# EAGLE library part DS1302 (library #PaJa_30)
RTC - obvod realneho casu
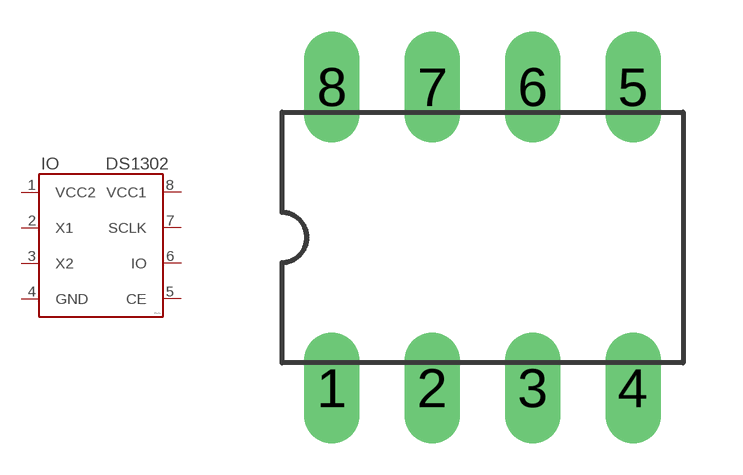
[diagram p61: symbol with the pads of DIL8; footprint DIL8]

Designator prefix IO

## DS1302  [DIL8]
1  VCC2  pwr
2  X1
3  X2
4  GND  pwr
5  CE
6  IO
7  SCLK
8  VCC1  pwr

## Footprint DIL8 (pad centres in mm)
drill 0.813 pad 1.4 long: 1 -3.81,-3.81; 2 -1.27,-3.81; 3 1.27,-3.81; 4 3.81,-3.81; 5 3.81,3.81; 6 1.27,3.81; 7 -1.27,3.81; 8 -3.81,3.81